# Altium integrated library 281742-8.IntLib: 2 symbols
Pins are listed as number, name and electrical type; pins without a type are passive.

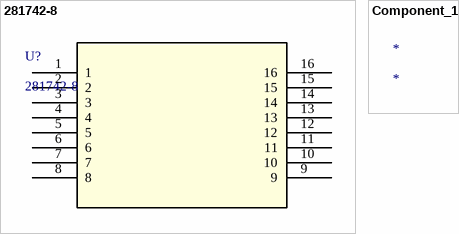
[diagram p0: symbols 281742-8 to Component_1]

## 281742-8
designator U?
No Description Available; Mfr_Name: TE Connectivity; Copyright: Copyright (C) 2022 Ultra Librarian. All rights reserved.; Manufacturer_Part_Number: 281742-8; RefDes: RefDes; Type: DEV
footprint 281742-8_TYC
pins: 1, 2, 3, 4, 5, 6, 7, 8, 9, 10, 11, 12, 13, 14, 15, 16

## Component_1
designator *